# Altium footprint library User-Submitted.PCBLIB: 21 footprints (part 1 of 2)
Each footprint in its own frame and in the unit in brackets; x right, y up, seen from the top. Pads: shape width x height; smd on the part's side, far side on the other; paste and mask are expansions set on the pad; w line width, h text height; cw(c..) or ccw(c..) is an arc to the next point about the centre after c.
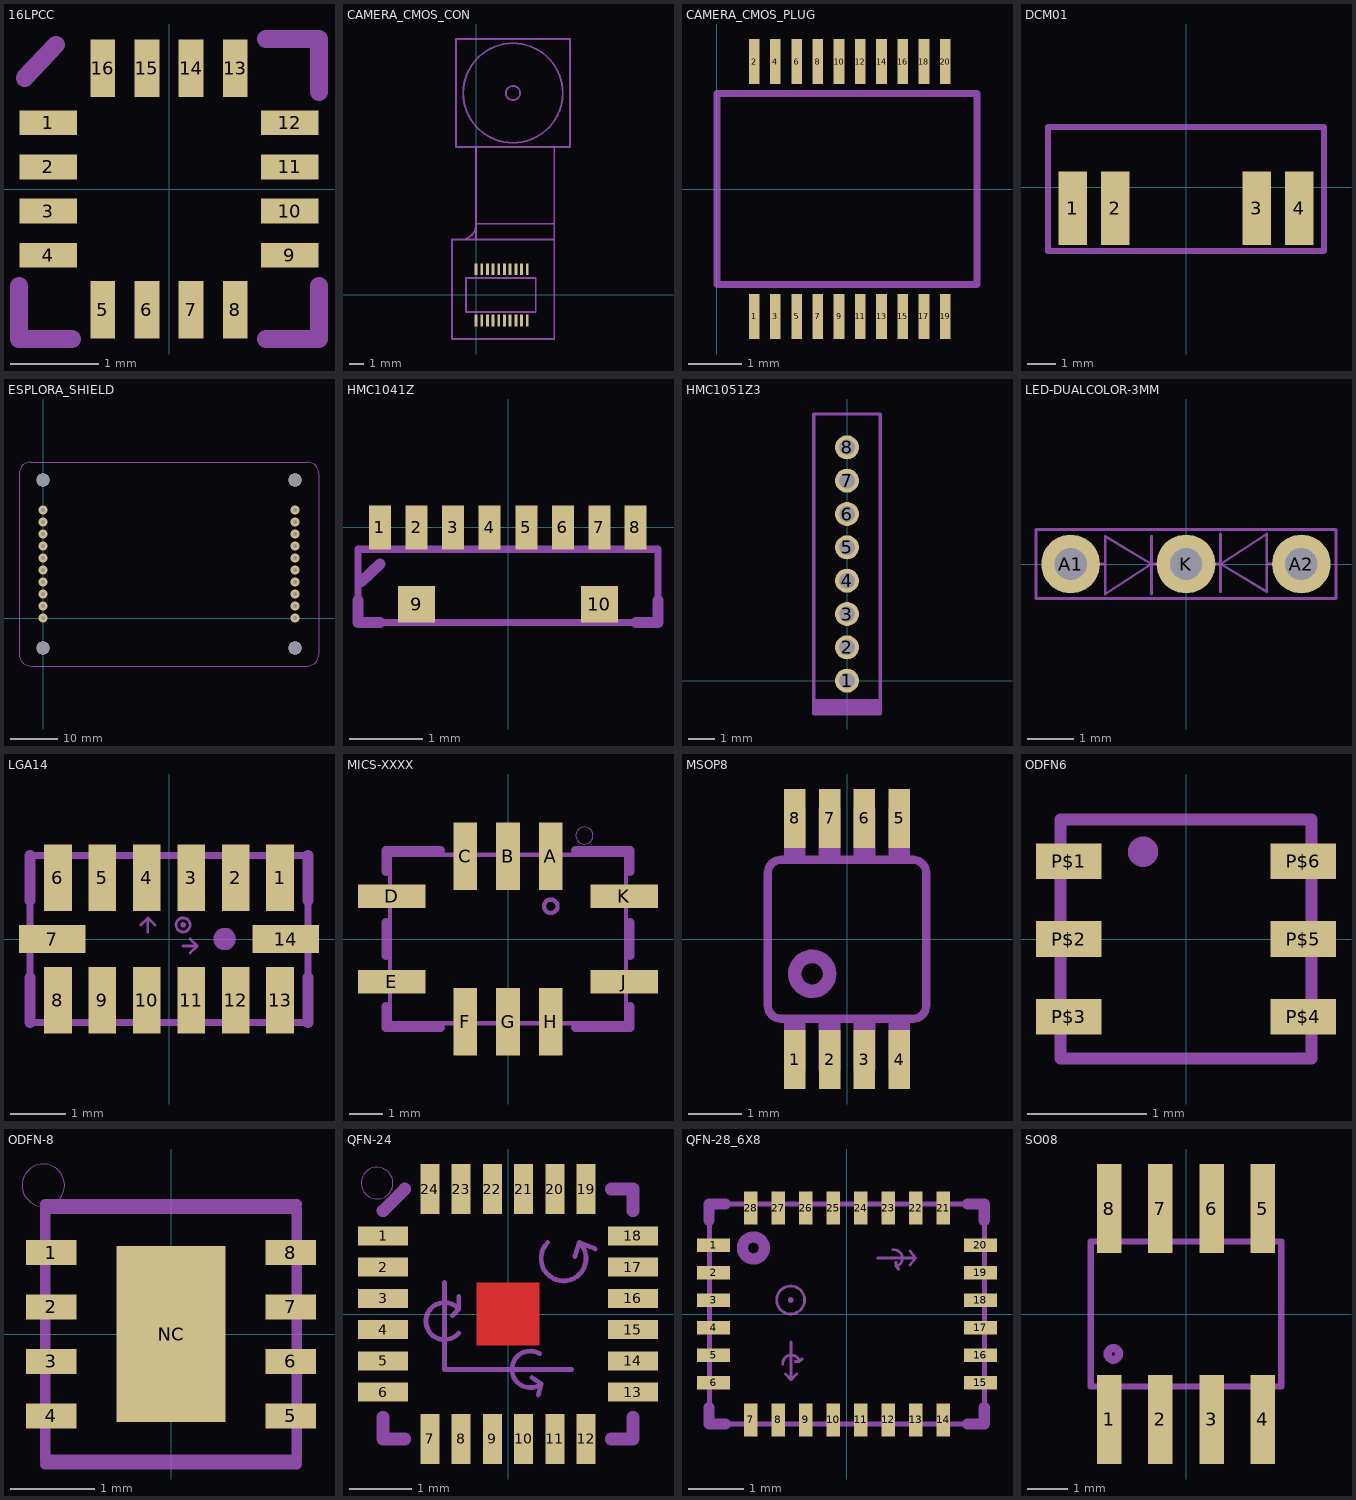
[diagram p0: the footprints below, top view; thin cyan lines are the x and y axes]

## 16LPCC [mm]
pads (16):
  rect 0.65x0.28 smd: 1(-1.37,0.75) 2(-1.37,0.25) 3(-1.37,-0.25) 4(-1.37,-0.75) 9(1.37,-0.75) 10(1.37,-0.25) 11(1.37,0.25) 12(1.37,0.75)
  rect 0.28x0.65 smd: 5(-0.75,-1.37) 6(-0.25,-1.37) 7(0.25,-1.37) 8(0.75,-1.37) 13(0.75,1.37) 14(0.25,1.37) 15(-0.25,1.37) 16(-0.75,1.37)
tPlace:
  lines w0.203: -1.7,-1.1 -1.7,-1.7 -1.1,-1.7 ; -1.635,1.26 -1.28,1.635 ; 1.1,-1.7 1.7,-1.7 1.7,-1.1 ; 1.1,1.7 1.7,1.7 1.7,1.1

## CAMERA_CMOS_CON [mm]
pads (20):
  rect 0.2x0.83 smd: ENB(3.6,1.8) FVLD(1.2,1.8) GND(0,-1.8) GND@1(2.8,1.8) LVLD(0.8,1.8) MCLK(0,1.8) PCLK(0.4,1.8) RST(3.2,1.8) SCL(2,1.8) SDA(1.6,1.8) VCC(0.4,-1.8) VCC@1(2.4,1.8) Y0(3.6,-1.8) Y1(3.2,-1.8) Y2(2.8,-1.8) Y3(2.4,-1.8) Y4(2,-1.8) Y5(1.6,-1.8) Y6(1.2,-1.8) Y7(0.8,-1.8)
tDocu:
  circle w0.127: c2.6,14.2 r3.5
  circle w0.127: c2.6,14.2 r0.5
  lines w0.127: -0.7,-1.2 4.2,-1.2 ; -0.7,1.2 4.2,1.2 ; 0,3.9 0,10.4 ; 5.5,3.9 5.5,10.4 ; 0,10.4 -1.4,10.4 -1.4,18 6.6,18 6.6,10.4 5.5,10.4 ; 0,10.4 5.5,10.4
tPlace:
  lines w0.127: -0.5,-1.2 -0.7,-1.2 -0.7,1.2 -0.5,1.2 ; 4,-1.2 4.2,-1.2 4.2,1.2 4,1.2 ; -1,3.9 -1.7,3.9 -1.7,-3.1 5.5,-3.1 5.5,3.9 ; -1,3.9 5.5,3.9 ; -1,3.9 ccw(c-1.05,4.95) 0,5 5.5,5 5.5,3.9

## CAMERA_CMOS_PLUG [mm]
pads (20):
  rect 0.2x0.85 smd: 1(0.7,-2.4) 2(0.7,2.4) 3(1.1,-2.4) 4(1.1,2.4) 5(1.5,-2.4) 6(1.5,2.4) 7(1.9,-2.4) 8(1.9,2.4) 9(2.3,-2.4) 10(2.3,2.4) 11(2.7,-2.4) 12(2.7,2.4) 13(3.1,-2.4) 14(3.1,2.4) 15(3.5,-2.4) 16(3.5,2.4) 17(3.9,-2.4) 18(3.9,2.4) 19(4.3,-2.4) 20(4.3,2.4)
tPlace:
  lines w0.127: 0,-1.8 4.9,-1.8 4.9,1.8 0,1.8 0,-1.8

## DCM01 [mm]
pads (4):
  rect 1x2.6 smd: 1(-4,-0.75) 2(-2.5,-0.75) 3(2.5,-0.75) 4(4,-0.75)
tPlace:
  lines w0.203: -4.875,-2.252 -4.875,2.125 4.875,2.125 4.875,-2.252 -4.875,-2.252

## ESPLORA_SHIELD [mil]
pads (24):
  round 74 hole 31.5: 5V(2100,900) 5V-1(2100,100) D0(2100,300) D1(2100,200) D7(2100,500) D8/A9(2100,400) D14(2100,800) D15(2100,700) D16(2100,600) GND(2100,0) NC1(0,900) NC2(0,800) NC3(0,700) NC4(0,600) NC5(0,500) NC6(0,400) NC7(0,300) NC8(0,200) NC9(0,100) NC10(0,0)
  round 110.24 hole 110.24 unplated: MH1(0,1150) MH2(2100,1150) MH3(2100,-250) MH4(0,-250)
Dimension:
  lines w5: -200,-300 -200,1200 cw(c-100,1200) -100,1300 2200,1300 cw(c2200,1200) 2300,1200 2300,-300 cw(c2200,-300) 2200,-400 -100,-400 cw(c-100,-300) -200,-300
tPlace:
  text "5V" at 1850,900 h77.5
  text "D14" at 1850,800 h77.5
  text "D15" at 1850,700 h77.5
  text "D16" at 1850,600 h77.5
  text "D7" at 1850,500 h77.5
  text "A9" at 1850,400 h77.5
  text "D0" at 1850,300 h77.5
  text "D1" at 1850,200 h77.5
  text "5V" at 1850,100 h77.5
  text "GND" at 1850,0 h77.5

## HMC1041Z [mil]
pads (10):
  rect 11.81x23.62 smd: 1(-68.9,0) 2(-49.21,0) 3(-29.53,0) 4(-9.84,0) 5(9.84,0) 6(29.53,0) 7(49.21,0) 8(68.5,0)
  rect 19.69x19.69 smd: 9(-49.21,-41.34) 10(49.21,-41.34)
tDocu:
  lines w3.94: -80.71,-51.18 80.71,-51.18 80.71,-11.81 -80.71,-11.81 -80.71,-51.18
tPlace:
  lines w6: -80.71,-39.37 -80.71,-51.18 -68.9,-51.18 ; -78.74,-29.13 -68.9,-19.69 ; 68.9,-51.18 80.71,-51.18 80.71,-39.37

## HMC1051Z3 [mil]
pads (8):
  round 36 hole 23.62: 1(0,0) 2(0,50) 3(0,100) 4(0,150) 5(0,200) 6(0,250) 7(0,300) 8(0,350)
tPlace:
  lines w5: -50,-45 -50,-40 ; -50,-45 -50,-50 50,-50 50,-45 ; -50,-45 50,-45 ; -50,-40 50,-40 ; -50,-40 -50,-35 ; -50,-35 -50,-30 ; -50,-35 50,-35 ; -50,-30 -50,400 50,400 50,-30 ; -50,-30 50,-30 ; 50,-45 50,-40 ; 50,-40 50,-35 ; 50,-35 50,-30

## LED-DUALCOLOR-3MM [mm]
pads (3):
  round 1.27 hole 0.7: A1(-2.5,0) A2(2.5,0) K(0,0)
tPlace:
  lines w0.06: -2,0 -1.75,0 ; -0.75,-0.65 -0.75,0 ; -0.75,0.6 -0.75,0 ; -0.5,0 -0.75,0 ; 0.5,0 0.75,0 ; 0.75,-0.6 0.75,0 ; 0.75,0.65 0.75,0 ; 2,0 1.75,0 ; -1.75,0 -1.75,0.6 -0.75,0 ; -1.75,0 -1.75,-0.65 -0.75,0 ; 0.75,0 1.75,0.65 1.75,0 ; 0.75,0 1.75,-0.6 1.75,0 ; -3.25,-0.75 3.25,-0.75 3.25,0.75 -3.25,0.75 -3.25,-0.75

## LGA14 [mm]
pads (14):
  rect 0.5x1.2 smd: 1(2,1.1) 2(1.2,1.1) 3(0.4,1.1) 4(-0.4,1.1) 5(-1.2,1.1) 6(-2,1.1) 8(-2,-1.1) 9(-1.2,-1.1) 10(-0.4,-1.1) 11(0.4,-1.1) 12(1.2,-1.1) 13(2,-1.1)
  rect 1.2x0.5 smd: 7(-2.1,0) 14(2.1,0)
tDocu:
  circle w0.051: c0.254,0.254 r0.127
  circle w0.051: c0.254,0.254 r0.025
  lines w0.051: -0.508,0.254 -0.381,0.381 ; -0.381,0.127 -0.381,0.381 ; -0.254,0.254 -0.381,0.381 ; 0.254,-0.127 0.508,-0.127 ; 0.381,-0.254 0.508,-0.127 ; 0.381,0 0.508,-0.127
  lines w0.127: -2.5,-1.5 -2.5,1.5 2.5,1.5 2.5,-1.5 -2.5,-1.5
  text "X" at -0.127,-0.254 h0.47
  text "Y" at -0.508,-0.254 h0.47
  text "Z" at -0.127,0.127 h0.47
tPlace:
  circle w0.203: c1,0 r0.1
  lines w0.203: -2.5,-1.5 -2.5,-0.7 ; -2.5,0.7 -2.5,1.5 ; 2.5,-1.5 2.5,-0.7 ; 2.5,0.7 2.5,1.5

## MICS-XXXX [mm]
pads (10):
  rect 0.7x2 smd: A(1.27,2.45) B(0,2.45) C(-1.27,2.45) F(-1.27,-2.45) G(0,-2.45) H(1.27,-2.45)
  rect 2x0.7 smd: D(-3.45,1.27) E(-3.45,-1.27) J(3.45,-1.27) K(3.45,1.27)
tDocu:
  circle w0.127: c1.27,0.97 r0.2
  region: -0.3,1.5 -0.3,2.5 0.3,2.5 0.3,1.5
  region: -1.57,1.5 -1.57,2.5 -0.97,2.5 -0.97,1.5
  region: 0.97,1.5 0.97,2.5 1.57,2.5 1.57,1.5
  region: -1.57,-2.5 -1.57,-1.5 -0.97,-1.5 -0.97,-2.5
  region: -0.3,-2.5 -0.3,-1.5 0.3,-1.5 0.3,-2.5
  region: 0.97,-2.5 0.97,-1.5 1.57,-1.5 1.57,-2.5
  region: -3.5,0.97 -3.5,1.57 -2.5,1.57 -2.5,0.97
  region: -3.5,-1.57 -3.5,-0.97 -2.5,-0.97 -2.5,-1.57
  region: 2.5,0.97 2.5,1.57 3.5,1.57 3.5,0.97
  region: 2.5,-1.57 2.5,-0.97 3.5,-0.97 3.5,-1.57
  lines w0.127: -3.5,-2.5 3.5,-2.5 3.5,2.5 -3.5,2.5 -3.5,-2.5
tPlace:
  circle w0: c2.27,3.07 r0.254
  lines w0.254: -3.627,-2 -3.627,-2.627 -2,-2.627 ; -3.627,-0.5 -3.627,0.5 ; -3.627,2 -3.627,2.627 -2,2.627 ; 2,-2.627 3.627,-2.627 3.627,-2 ; 2,2.627 3.627,2.627 3.627,2 ; 3.627,-0.5 3.627,0.5

## MSOP8 [mm]
pads (8):
  rect 0.4x1.1 smd: 1(-0.975,-2.25) 2(-0.325,-2.25) 3(0.325,-2.25) 4(0.975,-2.25) 5(0.975,2.25) 6(0.325,2.25) 7(-0.325,2.25) 8(-0.975,2.25)
tDocu:
  region: -1.175,-2.45 -1.175,-1.55 -0.775,-1.55 -0.775,-2.45
  region: -0.525,-2.45 -0.525,-1.55 -0.125,-1.55 -0.125,-2.45
  region: 0.125,-2.45 0.125,-1.55 0.525,-1.55 0.525,-2.45
  region: 0.775,-2.45 0.775,-1.55 1.175,-1.55 1.175,-2.45
  region: 0.775,1.55 0.775,2.45 1.175,2.45 1.175,1.55
  region: 0.125,1.55 0.125,2.45 0.525,2.45 0.525,1.55
  region: -0.525,1.55 -0.525,2.45 -0.125,2.45 -0.125,1.55
  region: -1.175,1.55 -1.175,2.45 -0.775,2.45 -0.775,1.55
tPlace:
  circle w0.254: c-0.65,-0.65 r0.325
  lines w0.152: -1.48,-1.24 ccw(c-1.23,-1.24) -1.23,-1.49 ; -1.48,-1.23 -1.48,1.23 cw(c-1.23,1.23) -1.23,1.48 ; -1.22,-1.49 1.24,-1.49 ; -1.22,1.48 1.24,1.48 ; 1.23,-1.49 ccw(c1.23,-1.24) 1.48,-1.24 1.48,1.23 ccw(c1.23,1.23) 1.23,1.48

## ODFN6 [mm]
pads (6):
  rect 0.55x0.3 smd: P$1(-0.98,0.65) P$2(-0.98,0) P$3(-0.98,-0.65) P$4(0.98,-0.65) P$5(0.98,0) P$6(0.98,0.65)
tDocu:
  lines w0.1: -1.05,-1 -1.05,1 ; 1.05,-1 1.05,1
tPlace:
  circle w0.127: c-0.36,0.73 r0.064
  lines w0.1: -1.05,-1 1.05,-1 ; -1.05,1 1.05,1

## ODFN-8 [mm]
pads (9):
  rect 0.6x0.3 smd: 1(-1.43,0.975) 2(-1.43,0.325) 3(-1.43,-0.325) 4(-1.43,-0.975) 5(1.43,-0.975) 6(1.43,-0.325) 7(1.43,0.325) 8(1.43,0.975)
  rect 1.3x2.1 smd paste+0: NC(0,0)
Top Paste:
  region: -0.3,-0.4 -0.3,0.4 0.3,0.4 0.3,-0.4
tDocu:
  lines w0.127: -1.5,-1.5 -1.5,1.5 1.5,1.5 1.5,-1.5 -1.5,-1.5
tPlace:
  circle w0: c-1.524,1.778 r0.254
  lines w0.127: -1.5,-1.55 1.5,-1.55 ; -1.5,1.55 1.5,1.55

## QFN-24 [mm]
pads (24):
  rect 0.8x0.3 smd: 1(-2,1.25) 2(-2,0.75) 3(-2,0.25) 4(-2,-0.25) 5(-2,-0.75) 6(-2,-1.25) 13(2,-1.25) 14(2,-0.75) 15(2,-0.25) 16(2,0.25) 17(2,0.75) 18(2,1.25)
  rect 0.3x0.8 smd: 7(-1.25,-2) 8(-0.75,-2) 9(-0.25,-2) 10(0.25,-2) 11(0.75,-2) 12(1.25,-2) 19(1.25,2) 20(0.75,2) 21(0.25,2) 22(-0.25,2) 23(-0.75,2) 24(-1.25,2)
Top:
  region: -0.5,-0.5 -0.5,0.5 0.5,0.5 0.5,-0.5
Top Solder:
  region: -0.5,-0.5 -0.5,0.5 0.5,0.5 0.5,-0.5
tDocu:
  lines w0.076: -1.016,0.508 -1.016,-0.889 1.016,-0.889 ; -0.889,-0.025 -0.787,0.076 ; -0.787,-0.305 cw(c-1.016,-0.114) -0.787,0.076 ; -0.787,0.279 -0.787,0.076 ; 0.381,-1.016 0.533,-1.118 ; 0.483,-1.295 0.533,-1.118 ; 0.508,-0.635 ccw(c0.356,-0.885) 0.533,-1.118 ; 0.635,1.143 ccw(c0.889,0.889) 1.143,1.143 ; 1.067,0.914 1.143,1.143 ; 1.397,1.041 1.143,1.143
  text "X" at 1.118,-1.194 h0.63
  text "Y" at -1.219,0.66 h0.63
  text "Z" at 0,0.864 h0.63
tPlace:
  circle w0: c-2.095,2.095 r0.254
  lines w0.203: -2,-1.65 -2,-2 -1.65,-2 ; -2,1.65 -1.65,2 ; 1.65,-2 2,-2 2,-1.65 ; 1.65,2 2,2 2,1.65

## QFN-28_6X8 [mm]
pads (28):
  rect 0.6x0.25 smd: 1(-2.417,1.25) 2(-2.417,0.75) 3(-2.417,0.25) 4(-2.417,-0.25) 5(-2.417,-0.75) 6(-2.417,-1.25) 15(2.433,-1.25) 16(2.433,-0.75) 17(2.433,-0.25) 18(2.433,0.25) 19(2.433,0.75) 20(2.433,1.25)
  rect 0.25x0.6 smd: 7(-1.742,-1.925) 8(-1.242,-1.925) 9(-0.742,-1.925) 10(-0.242,-1.925) 11(0.258,-1.925) 12(0.758,-1.925) 13(1.258,-1.925) 14(1.758,-1.925) 21(1.758,1.925) 22(1.258,1.925) 23(0.758,1.925) 24(0.258,1.925) 25(-0.242,1.925) 26(-0.742,1.925) 27(-1.242,1.925) 28(-1.742,1.925)
tDocu:
  circle w0.09: c-1.692,1.2 r0.2
  circle w0.051: c-1.016,0.254 r0.254
  circle w0.051: c-1.016,0.254 r0.025
  lines w0.051: -1.161,-0.914 cw(c-1.006,-0.902) -0.856,-0.864 ; -1.11,-1.092 -1.008,-1.194 ; -1.008,-0.508 -1.008,-1.194 ; -0.932,-0.864 -0.856,-0.864 ; -0.907,-1.092 -1.008,-1.194 ; -0.805,-0.813 -0.856,-0.864 ; 0.567,1.016 1.253,1.016 ; 0.846,1.168 cw(c0.859,1.014) 0.897,0.864 ; 0.897,0.94 0.897,0.864 ; 0.948,0.813 0.897,0.864 ; 1.151,0.889 1.253,1.016 ; 1.151,1.143 1.253,1.016
  lines w0.09: -2.492,-2 2.508,-2 2.508,2 -2.492,2 -2.492,-2
  text "X" at 0.592,1.118 h0.35
  text "Y" at -1.262,-0.61 h0.35
  text "Z" at -0.635,0.152 h0.35
tPlace:
  circle w0.203: c-1.692,1.2 r0.2
  lines w0.203: -2.5,-1.7 -2.5,-2 -2.2,-2 ; -2.5,1.7 -2.5,2 -2.2,2 ; 2.2,-2 2.5,-2 2.5,-1.7 ; 2.2,2 2.5,2 2.5,1.7

## SO08 [mil]
pads (8):
  rect 24x87 smd: 1(-75,-103) 2(-25,-103) 3(25,-103) 4(75,-103) 5(75,103) 6(25,103) 7(-25,103) 8(-75,103)
tDocu:
  region: -82,-113 -82,-73 -68,-73 -68,-113
  region: -32,-113 -32,-73 -18,-73 -18,-113
  region: 18,-113 18,-73 32,-73 32,-113
  region: 68,-113 68,-73 82,-73 82,-113
  region: -82,73 -82,113 -68,113 -68,73
  region: -32,73 -32,113 -18,113 -18,73
  region: 18,73 18,113 32,113 32,73
  region: 68,73 68,113 82,113 82,73
  lines w6: -92.99,-70.98 92.99,-70.98 ; -92.99,70.98 92.99,70.98
tPlace:
  circle w8: c-71,-39 r5.65
  lines w6: -92.99,-70.98 -92.99,70.98 ; 92.99,-70.98 92.99,70.98